# EAGLE library part CP2102 (library CP2102)
USB Interface IC To check availblity Click here.! <https://punoscho.in/product/cp2102-usb-to-uart-converter/>
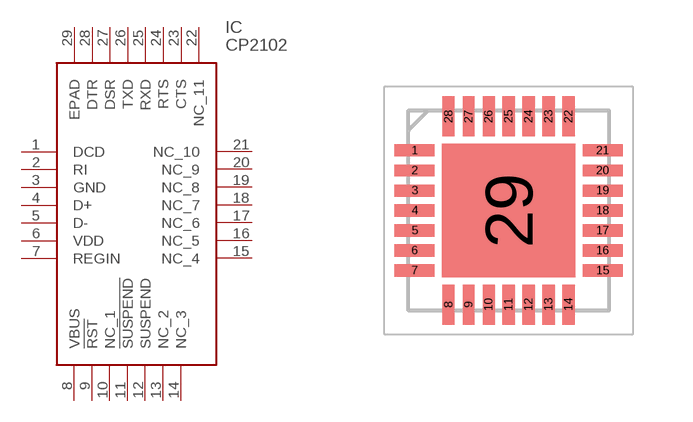
[diagram p0: symbol with the pads of QFN50P500X500X100-29N; footprint QFN50P500X500X100-29N]

Designator prefix IC

## CP2102 (DESCRIPTION: USB Interface IC; MFR: Silicon Labs; MFR-PN: CP2102; PACKAGE: QFN-28; SUPPLIER: Punoscho.in; SUPPLIER-PN: PU-0177)  [QFN50P500X500X100-29N]
1  DCD
2  RI
3  GND
4  D+
5  D-
6  VDD
7  REGIN
8  VBUS
9  !RST
10  NC_1
11  !SUSPEND
12  SUSPEND
13  NC_2
14  NC_3
15  NC_4
16  NC_5
17  NC_6
18  NC_7
19  NC_8
20  NC_9
21  NC_10
22  NC_11
23  CTS
24  RTS
25  RXD
26  TXD
27  DSR
28  DTR
29  EPAD

## Footprint QFN50P500X500X100-29N (pad centres in mm)
QFN-28-3
smd 1 x 0.3: 1 -2.35,1.5; 2 -2.35,1; 3 -2.35,0.5; 4 -2.35,0; 5 -2.35,-0.5; 6 -2.35,-1; 7 -2.35,-1.5; 15 2.35,-1.5; 16 2.35,-1; 17 2.35,-0.5; 18 2.35,0; 19 2.35,0.5; 20 2.35,1; 21 2.35,1.5
smd 0.3 x 1: 8 -1.5,-2.35; 9 -1,-2.35; 10 -0.5,-2.35; 11 0,-2.35; 12 0.5,-2.35; 13 1,-2.35; 14 1.5,-2.35; 22 1.5,2.35; 23 1,2.35; 24 0.5,2.35; 25 0,2.35; 26 -0.5,2.35; 27 -1,2.35; 28 -1.5,2.35
smd 3.35 x 3.35: 29 0,0